# Altium footprint library SSOP.PcbLib: 8 footprints
Each footprint in its own frame and in the unit in brackets; x right, y up, seen from the top. Pads: shape width x height; smd on the part's side, far side on the other; paste and mask are expansions set on the pad; w line width, h text height; cw(c..) or ccw(c..) is an arc to the next point about the centre after c.
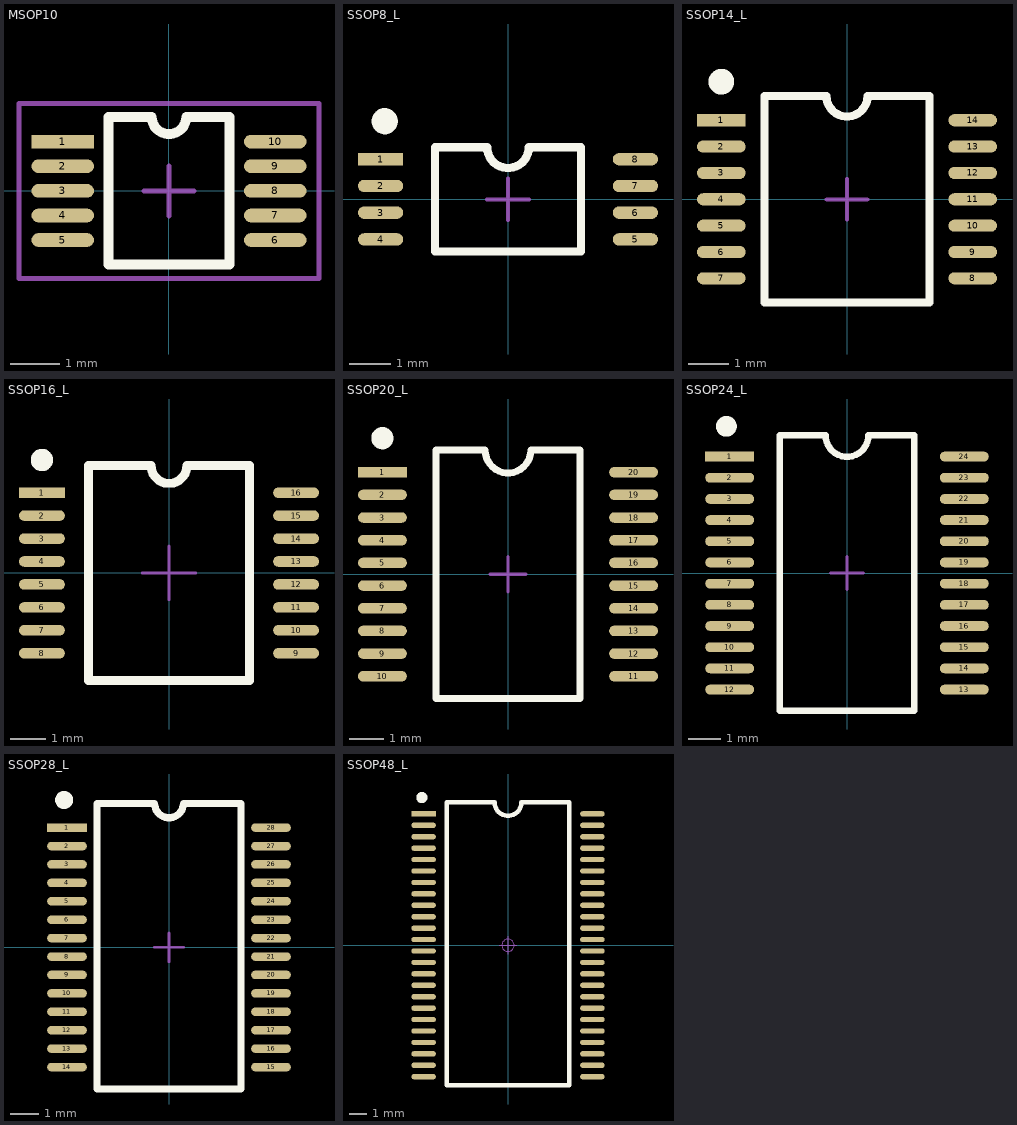
[diagram p0: the footprints below, top view; thin cyan lines are the x and y axes]

## MSOP10 [mil]
height 275.59
pads (10):
  rect 50x11 smd: 1(-85,39.37)
  oval 50x11 smd: 2(-85,19.69) 3(-85,0) 4(-85,-19.69) 5(-85,-39.37) 6(85,-39.37) 7(85,-19.68) 8(85,0) 9(85,19.69) 10(85,39.37)
Top Overlay:
  lines w7.87: -48.35,-58.95 -48.35,59.17 -13.78,59.17 ccw(c0,59.17) 13.78,59.17 48.35,59.17 48.35,-58.95 -48.35,-58.95
Mechanical 15:
  lines w3.94: -20.01,0 19.99,0 ; -0.01,-20 -0.01,20 ; -120,-70 -120,70 120,70 120,-70 -120,-70
3D body "User Library-MSOP-10-1.step": height 41.34, standoff 0.08, extent -98.97,-59.06 98.96,59.05

## SSOP8_L [mm] "3*6.4*1.2mm（长宽高）"
pads (8):
  rect 1.1x0.3 smd: 1(-3.1,0.975)
  oval 1.1x0.3 smd: 2(-3.1,0.325) 3(-3.1,-0.325) 4(-3.1,-0.975) 5(3.1,-0.975) 6(3.1,-0.325) 7(3.1,0.325) 8(3.1,0.975)
Top Overlay:
  circle w0.381: c-3,1.9 r0.127
  lines w0.203: -1.778,-1.27 1.778,-1.27 1.778,1.27 0.508,1.27 cw(c0,1.27) -0.508,1.27 -1.778,1.27 -1.778,-1.27
Mechanical 15:
  lines w0.1: -0.508,0 0.508,0 ; 0,-0.508 0,0.508
3D body "SSOP8.STEP": height 1.25, standoff -0.02, extent -3.203,-1.75 3.203,1.75

## SSOP14_L [mm] "5*6.4*1.2mm（长宽高）"
height 1.1
pads (14):
  rect 1.2x0.3 smd: 1(-3.1,1.95)
  oval 1.2x0.3 smd: 2(-3.1,1.3) 3(-3.1,0.65) 4(-3.1,0) 5(-3.1,-0.65) 6(-3.1,-1.3) 7(-3.1,-1.95) 8(3.1,-1.95) 9(3.1,-1.3) 10(3.1,-0.65) 11(3.1,0) 12(3.1,0.65) 13(3.1,1.3) 14(3.1,1.95)
Top Overlay:
  circle w0.381: c-3.1,2.9 r0.127
  lines w0.2: -2.032,2.55 -2.032,-2.55 2.032,-2.55 2.032,2.55
  lines w0.203: -2.032,2.55 -0.508,2.55 ccw(c0,2.55) 0.508,2.55 2.032,2.55
Mechanical 15:
  lines w0.1: -0.5,0 0.5,0 ; 0,-0.5 0,0.5
3D body "SSOP14.STEP": height 1.25, standoff -0.02, extent -3.203,-2.5 3.203,2.5

## SSOP16_L [mm] "6.3*7.7*1.6mm（长宽高）"
pads (16):
  rect 1.3x0.3 smd: 1(-3.6,2.275)
  oval 1.3x0.3 smd: 2(-3.6,1.625) 3(-3.6,0.975) 4(-3.6,0.325) 5(-3.6,-0.325) 6(-3.6,-0.975) 7(-3.6,-1.625) 8(-3.6,-2.275) 9(3.6,-2.275) 10(3.6,-1.625) 11(3.6,-0.975) 12(3.6,-0.325) 13(3.6,0.325) 14(3.6,0.975) 15(3.6,1.625) 16(3.6,2.275)
Top Overlay:
  circle w0.381: c-3.6,3.2 r0.127
  lines w0.254: -2.286,-3.048 -2.286,3.048 -0.508,3.048 ccw(c0,3.048) 0.508,3.048 2.286,3.048 2.286,-3.048 -2.286,-3.048
Mechanical 15:
  lines w0.076: -0.762,0 0.762,0 ; 0,-0.762 0,0.762
3D body "SSOP16.STEP": height 1.65, standoff -0.02, extent -3.853,-3.1 3.853,3.1

## SSOP20_L [mm] "7.2*7.8*1.6（长宽高）"
pads (20):
  rect 1.4x0.3 smd: 1(-3.6,2.925)
  oval 1.4x0.3 smd: 2(-3.6,2.275) 3(-3.6,1.625) 4(-3.6,0.975) 5(-3.6,0.325) 6(-3.6,-0.325) 7(-3.6,-0.975) 8(-3.6,-1.625) 9(-3.6,-2.275) 10(-3.6,-2.925) 11(3.6,-2.925) 12(3.6,-2.275) 13(3.6,-1.625) 14(3.6,-0.975) 15(3.6,-0.325) 16(3.6,0.325) 17(3.6,0.975) 18(3.6,1.625) 19(3.6,2.275) 20(3.6,2.925)
Top Overlay:
  circle w0.381: c-3.6,3.9 r0.127
  lines w0.2: -2.065,-3.556 -2.065,3.556 -0.655,3.556 ccw(c0,3.556) 0.655,3.556 2.065,3.556 2.065,-3.556 -2.065,-3.556
Mechanical 15:
  lines w0.1: -0.508,0 0.508,0 ; 0,-0.508 0,0.508
3D body "SSOP20.STEP": height 1.65, standoff -0.02, extent -3.853,-3.6 3.853,3.6

## SSOP24_L [mm] "8.3*7.8*1.6（长宽高）"
pads (24):
  rect 1.5x0.3 smd: 1(-3.6,3.575)
  oval 1.5x0.3 smd: 2(-3.6,2.925) 3(-3.6,2.275) 4(-3.6,1.625) 5(-3.6,0.975) 6(-3.6,0.325) 7(-3.6,-0.325) 8(-3.6,-0.975) 9(-3.6,-1.625) 10(-3.6,-2.275) 11(-3.6,-2.925) 12(-3.6,-3.575) 13(3.6,-3.575) 14(3.6,-2.925) 15(3.6,-2.275) 16(3.6,-1.625) 17(3.6,-0.975) 18(3.6,-0.325) 19(3.6,0.325) 20(3.6,0.975) 21(3.6,1.625) 22(3.6,2.275) 23(3.6,2.925) 24(3.6,3.575)
Top Overlay:
  circle w0.381: c-3.7,4.5 r0.127
  lines w0.2: -2.065,-4.225 -2.065,4.225 -0.655,4.225 ccw(c0,4.225) 0.655,4.225 2.065,4.225 2.065,-4.225 -2.065,-4.225
Mechanical 15:
  lines w0.1: -0.508,0 0.508,0 ; 0,-0.508 0,0.508
3D body "SSOP24.STEP": height 1.65, standoff -0.02, extent -3.853,-4.15 3.853,4.15

## SSOP28_L [mm] "10.2*7.8*1.9mm(长宽高）"
pads (28):
  rect 1.4x0.3 smd: 1(-3.6,4.225)
  oval 1.4x0.3 smd: 2(-3.6,3.575) 3(-3.6,2.925) 4(-3.6,2.275) 5(-3.6,1.625) 6(-3.6,0.975) 7(-3.6,0.325) 8(-3.6,-0.325) 9(-3.6,-0.975) 10(-3.6,-1.625) 11(-3.6,-2.275) 12(-3.6,-2.925) 13(-3.6,-3.575) 14(-3.6,-4.225) 15(3.6,-4.225) 16(3.6,-3.575) 17(3.6,-2.925) 18(3.6,-2.275) 19(3.6,-1.625) 20(3.6,-0.975) 21(3.6,-0.325) 22(3.6,0.325) 23(3.6,0.975) 24(3.6,1.625) 25(3.6,2.275) 26(3.6,2.925) 27(3.6,3.575) 28(3.6,4.225)
Top Overlay:
  circle w0.381: c-3.7,5.2 r0.127
  lines w0.254: -2.54,-5 2.54,-5 2.54,5.08 0.508,5.08 cw(c0,5.08) -0.508,5.08 -2.54,5.08 -2.54,-5
Mechanical 15:
  lines w0.1: -0.508,0 0.508,0 ; 0,-0.508 0,0.508
3D body "SSOP28.STEP": height 1.65, standoff -0.02, extent -3.853,-5.1 3.853,5.1

## SSOP48_L [mm] "16*10.3*2.4mm（长宽高）"
pads (48):
  rect 1.4x0.3 smd: 1(-4.8,7.475)
  oval 1.4x0.3 smd: 2(-4.8,6.825) 3(-4.8,6.175) 4(-4.8,5.525) 5(-4.8,4.875) 6(-4.8,4.225) 7(-4.8,3.575) 8(-4.8,2.925) 9(-4.8,2.275) 10(-4.8,1.625) 11(-4.8,0.975) 12(-4.8,0.325) 13(-4.8,-0.325) 14(-4.8,-0.975) 15(-4.8,-1.625) 16(-4.8,-2.275) 17(-4.8,-2.925) 18(-4.8,-3.575) 19(-4.8,-4.225) 20(-4.8,-4.875) 21(-4.8,-5.525) 22(-4.8,-6.175) 23(-4.8,-6.825) 24(-4.8,-7.475) 25(4.8,-7.475) 26(4.8,-6.825) 27(4.8,-6.175) 28(4.8,-5.525) 29(4.8,-4.875) 30(4.8,-4.225) 31(4.8,-3.575) 32(4.8,-2.925) 33(4.8,-2.275) 34(4.8,-1.625) 35(4.8,-0.975) 36(4.8,-0.325) 37(4.8,0.325) 38(4.8,0.975) 39(4.8,1.625) 40(4.8,2.275) 41(4.8,2.925) 42(4.8,3.575) 43(4.8,4.225) 44(4.8,4.875) 45(4.8,5.525) 46(4.8,6.175) 47(4.8,6.825) 48(4.8,7.475)
Top Overlay:
  circle w0.381: c-4.9,8.4 r0.127
  lines w0.254: -3.475,-7.95 3.475,-7.95 3.475,8.128 0.762,8.128 cw(c0,8.128) -0.762,8.128 -3.475,8.128 -3.475,-7.95
Mechanical 15:
  circle w0.05: c0,0 r0.35
  lines w0.05: -0.5,0 0.5,0 ; 0,-0.5 0,0.5
3D body "SSOP48.STEP": height 2.45, standoff -0.02, extent -5.003,-8 5.003,8